# EAGLE library part JST-XH-06-PIN (library JST XH Connectors)
JST XH Connector 2 Pin Wire to board connector. Pitch: 2,54 mm, (0.100") Number of pins: 6
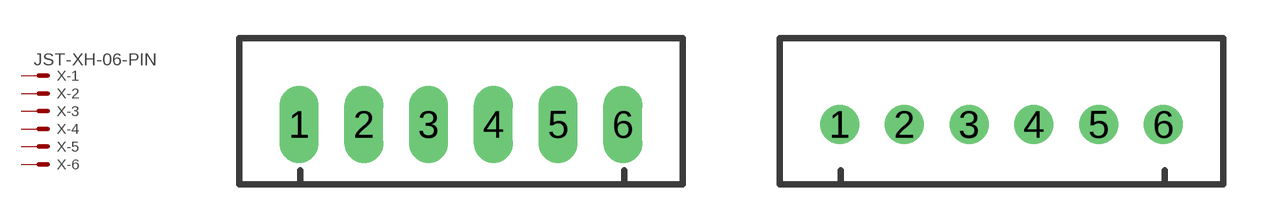
[diagram p0: symbol with the pads of JST-XH-06-PACKAGE-LONG-PAD; footprints JST-XH-06-PACKAGE-LONG-PAD, JST-XH-06-PACKAGE-ROUND-PAD]

Designator prefix X; gates -1=MV -2=M -3=M -4=M -5=M -6=M

## JST-XH-06-PIN-LONG-PAD  [JST-XH-06-PACKAGE-LONG-PAD]
1  -1:S  pas
2  -2:S  pas
3  -3:S  pas
4  -4:S  pas
5  -5:S  pas
6  -6:S  pas

## JST-XH-06-PIN-ROUND-PAD  [JST-XH-06-PACKAGE-ROUND-PAD]
Pads as for JST-XH-06-PACKAGE-LONG-PAD

## Footprint JST-XH-06-PACKAGE-LONG-PAD (pad centres in mm)
JST XH Connector Long Pads (Package) Wire to board connector. Pitch: 2,54 mm, (0.100") Number of pins: 6
drill 1.016 long: 1 -6.35,0; 2 -3.81,0; 3 -1.27,0; 4 1.27,0; 5 3.81,0; 6 6.35,0

## Footprint JST-XH-06-PACKAGE-ROUND-PAD (pad centres in mm)
JST XH Connector Round Pads (Package) Wire to board connector. Pitch: 2,54 mm, (0.100") Number of pins: 6
drill 1.016: 1 -6.35,0; 2 -3.81,0; 3 -1.27,0; 4 1.27,0; 5 3.81,0; 6 6.35,0